# Altium schematic symbol library DRTC_Symbols_V2.SchLib: 8 symbols
Pins are listed as number, name and electrical type; pins without a type are passive.

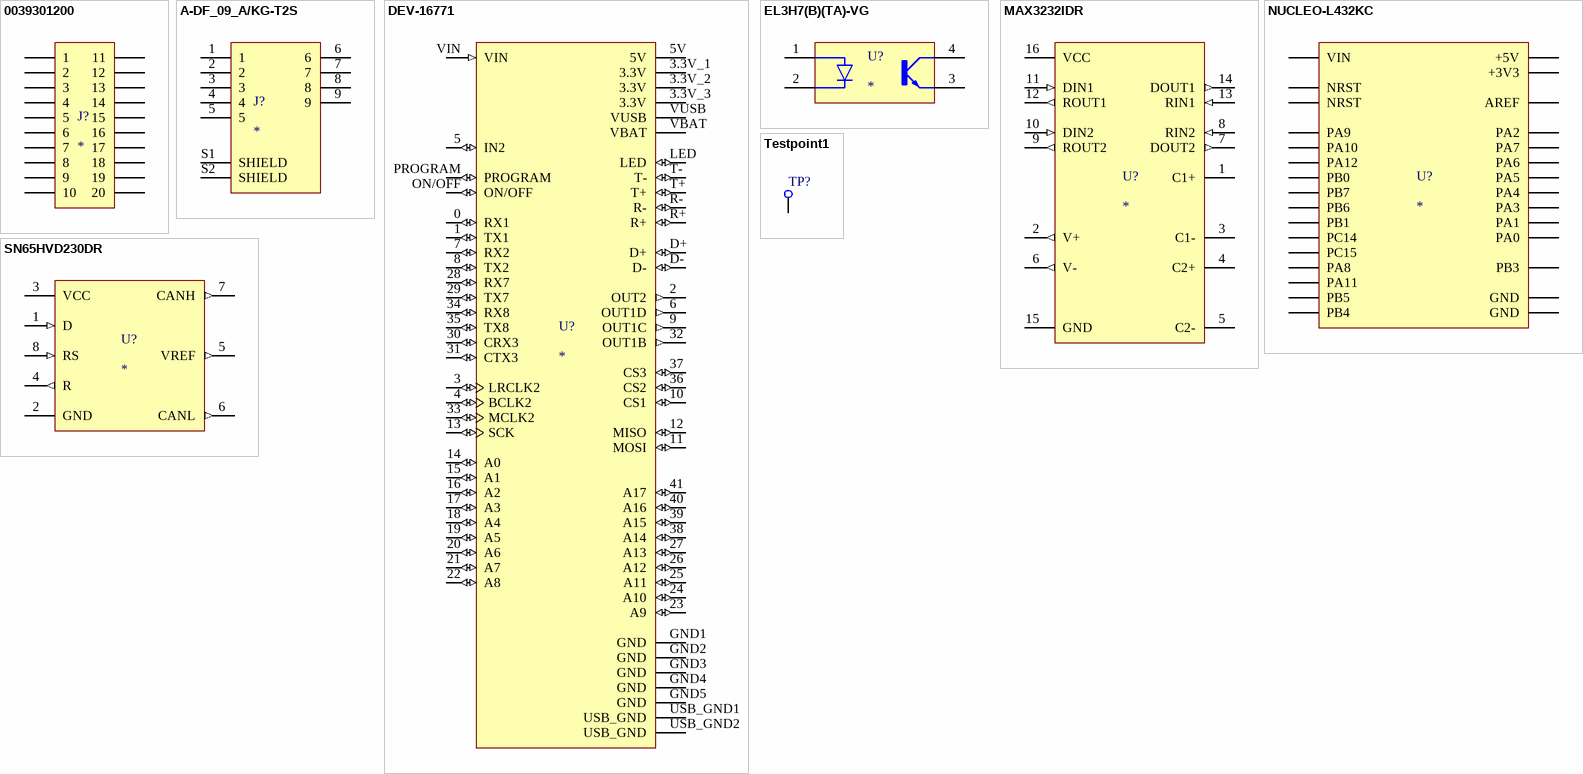
[diagram p0: symbols 0039301200 to Testpoint1]

## 0039301200
designator J?
Connector Header Through Hole, Right Angle 20 position 0.165" (4.20mm)
footprint MOLEX_0039301200
pins: 1, 2, 3, 4, 5, 6, 7, 8, 9, 10, 11, 12, 13, 14, 15, 16, 17, 18, 19, 20

## A-DF_09_A/KG-T2S
designator J?
Conn D-Subminiature F 9 POS 2.77mm Solder RA Thru-Hole 9 Terminal 1 Port; MP: A-DF_09_A/KG-T2S; MF: {'manufacturer': u'Assmann WSW'}; Availability: Unavailable; Value: *; Package: None; Price: None
footprint ASSMANN_A-DF09A/KG-T2S
pins: 1, 2, 3, 4, 5, 6, 7, 8, 9, S1 SHIELD, S2 SHIELD

## DEV-16771
designator U?
RT1062 Teensy 4.1 i.MX ARM Cortex-M7 MPU Embedded Evaluation Board; MP: DEV-16771; MF: {'manufacturer': u'SparkFun Electronics'}; Availability: Unavailable; Value: *; Package: None; Price: None
footprint MODULE_DEV-16771
pins: 0 RX1 (io), 1 TX1 (io), 2 OUT2 (out), 3 LRCLK2 (io), 3.3V_1 3.3V (power), 3.3V_2 3.3V (power), 3.3V_3 3.3V (power), 4 BCLK2 (io), 5 IN2 (io), 5V (power), 6 OUT1D (out), 7 RX2 (io), 8 TX2 (io), 9 OUT1C (out), 10 CS1 (io), 11 MOSI (io), 12 MISO (io), 13 SCK (io), 14 A0 (io), 15 A1 (io), 16 A2 (io), 17 A3 (io), 18 A4 (io), 19 A5 (io), 20 A6 (io), 21 A7 (io), 22 A8 (io), 23 A9 (io), 24 A10 (io), 25 A11 (io), 26 A12 (io), 27 A13 (io), 28 RX7 (io), 29 TX7 (io), 30 CRX3 (io), 31 CTX3 (io), 32 OUT1B (out), 33 MCLK2 (io), 34 RX8 (io), 35 TX8 (io), 36 CS2 (io), 37 CS3 (io), 38 A14 (io), 39 A15 (io), 40 A16 (io), 41 A17 (io), D+ (io), D- (io), GND1 GND (power), GND2 GND (power), GND3 GND (power), GND4 GND (power), GND5 GND (power), LED (io), ON/OFF (io), PROGRAM (io), R+ (io), R- (io), T+ (io), T- (io), USB_GND1 USB_GND (power), USB_GND2 USB_GND (power), VBAT, VIN (in), VUSB

## EL3H7(B)(TA)-VG
designator U?
Optoisolator Transistor Output 3750Vrms 1 Channel 4-SSOP; MP: EL3H7-G; MF: {'manufacturer': u'Everlight Electronics'}; Price: None; Availability: Unavailable; Package: None; Value: *
footprint SOIC127P700X200-4N
pins: 1 A, 2 C, 3 E, 4 CO

## MAX3232IDR
designator U?
3-V to 5.5-V multichannel RS-232 line driver & receiver 16-SOIC -40 to 85; MP: MAX3232IDR; MF: {'manufacturer': u'Texas Instruments'}; Availability: Unavailable; Value: *; Package: None; Price: None
footprint SOIC127P600X175-16N
pins: 1 C1+, 2 V+ (out), 3 C1-, 4 C2+, 5 C2-, 6 V- (out), 7 DOUT2 (out), 8 RIN2 (in), 9 ROUT2 (out), 10 DIN2 (in), 11 DIN1 (in), 12 ROUT1 (out), 13 RIN1 (in), 14 DOUT1 (out), 15 GND (power), 16 VCC (power)

## NUCLEO-L432KC
designator U?
STM32 Nucleo-32 development board with STM32L432KC MCU, supports Arduino connectivity; MF: {'manufacturer': u'STMicroelectronics'}; MP: NUCLEO-L432KC; Price: None; Value: *; Availability: Unavailable; Package: None
footprint MODULE_NUCLEO-L432KC
pins: CN3_1 PA9, CN3_2 PA10, CN3_3 NRST, CN3_4 GND (power), CN3_5 PA12, CN3_6 PB0, CN3_7 PB7, CN3_8 PB6, CN3_9 PB1, CN3_10 PC14, CN3_11 PC15, CN3_12 PA8, CN3_13 PA11, CN3_14 PB5, CN3_15 PB4, CN4_1 VIN (power), CN4_2 GND (power), CN4_3 NRST, CN4_4 +5V (power), CN4_5 PA2, CN4_6 PA7, CN4_7 PA6, CN4_8 PA5, CN4_9 PA4, CN4_10 PA3, CN4_11 PA1, CN4_12 PA0, CN4_13 AREF, CN4_14 +3V3 (power), CN4_15 PB3

## SN65HVD230DR
designator U?
3.3 V CAN Transceiver with Standby Mode 8-SOIC -40 to 85; MP: SN65HVD230DR; MF: {'manufacturer': u'Texas Instruments'}; Availability: Unavailable; Value: *; Package: None; Price: None
footprint SOIC127P599X175-8N
pins: 1 D (in), 2 GND (power), 3 VCC (power), 4 R (out), 5 VREF (out), 6 CANL (out), 7 CANH (out), 8 RS (in)

## Testpoint1
designator TP?  (value not drawn)  (no BOM)
Testpoint 40mil pad
footprint TESTPOINT40 (Footprint not found)
pins: 1